# EAGLE library part PIC32MK0512GPE064-I/PT (library GreenFuel)
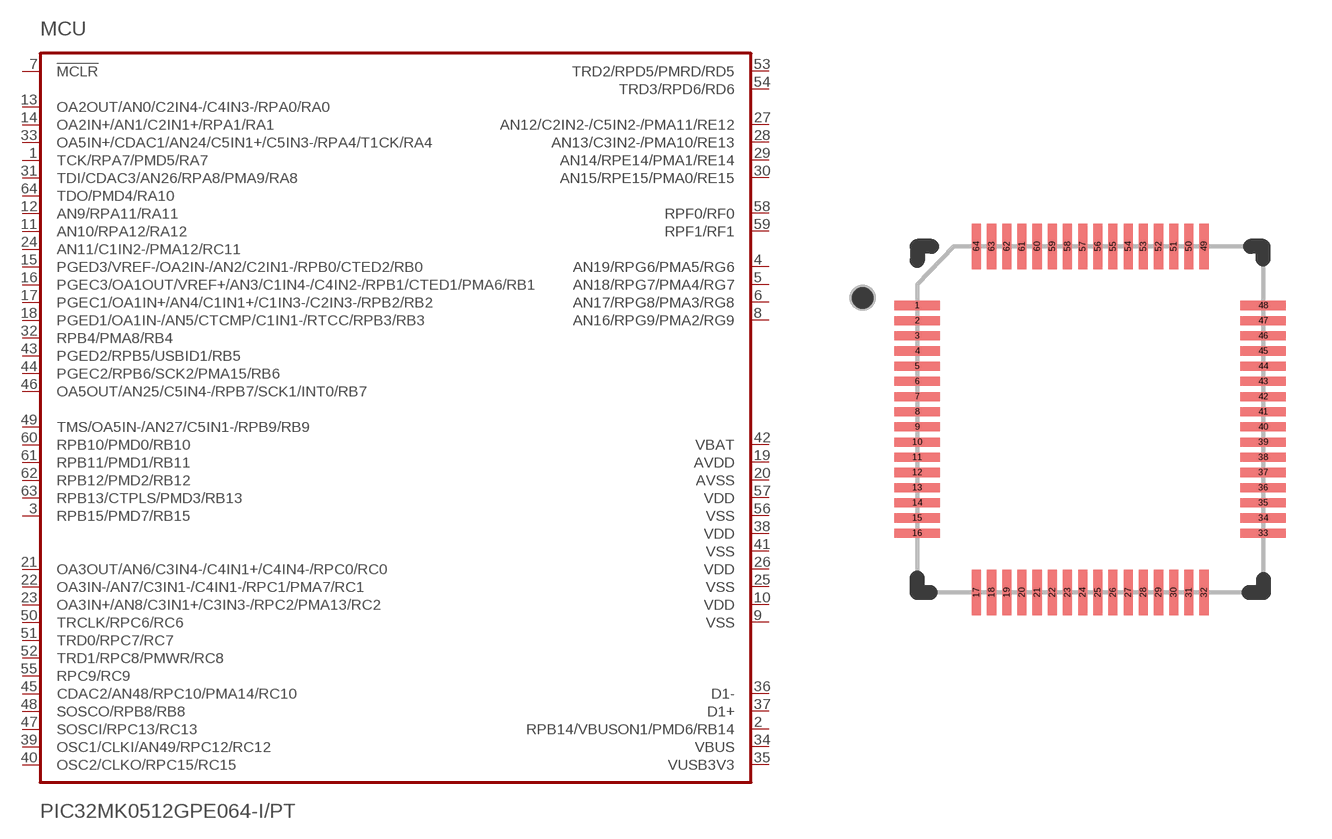
[diagram p4: symbol with the pads of TQFP-64-I/PT; footprint TQFP-64-I/PT]

Designator prefix MCU

## PIC32MK0512GPE064-I/PT  [TQFP-64-I/PT]
1  TCK/RPA7/PMD5/RA7
2  RPB14/VBUSON1/PMD6/RB14
3  RPB15/PMD7/RB15
4  AN19/RPG6/PMA5/RG6
5  AN18/RPG7/PMA4/RG7
6  AN17/RPG8/PMA3/RG8
7  !MCLR  in
8  AN16/RPG9/PMA2/RG9
9  VSS  pwr
10  VDD  pwr
11  AN10/RPA12/RA12
12  AN9/RPA11/RA11
13  OA2OUT/AN0/C2IN4-/C4IN3-/RPA0/RA0
14  OA2IN+/AN1/C2IN1+/RPA1/RA1
15  PGED3/VREF-/OA2IN-/AN2/C2IN1-/RPB0/CTED2/RB0  in
16  PGEC3/OA1OUT/VREF+/AN3/C1IN4-/C4IN2-/RPB1/CTED1/PMA6/RB1  in
17  PGEC1/OA1IN+/AN4/C1IN1+/C1IN3-/C2IN3-/RPB2/RB2
18  PGED1/OA1IN-/AN5/CTCMP/C1IN1-/RTCC/RPB3/RB3
19  AVDD  pwr
20  AVSS  pwr
21  OA3OUT/AN6/C3IN4-/C4IN1+/C4IN4-/RPC0/RC0
22  OA3IN-/AN7/C3IN1-/C4IN1-/RPC1/PMA7/RC1
23  OA3IN+/AN8/C3IN1+/C3IN3-/RPC2/PMA13/RC2
24  AN11/C1IN2-/PMA12/RC11
25  VSS  pwr
26  VDD  pwr
27  AN12/C2IN2-/C5IN2-/PMA11/RE12
28  AN13/C3IN2-/PMA10/RE13
29  AN14/RPE14/PMA1/RE14
30  AN15/RPE15/PMA0/RE15
31  TDI/CDAC3/AN26/RPA8/PMA9/RA8
32  RPB4/PMA8/RB4
33  OA5IN+/CDAC1/AN24/C5IN1+/C5IN3-/RPA4/T1CK/RA4
34  VBUS  in
35  VUSB3V3  pwr
36  D1-
37  D1+
38  VDD  pwr
39  OSC1/CLKI/AN49/RPC12/RC12
40  OSC2/CLKO/RPC15/RC15
41  VSS  pwr
42  VBAT  pwr
43  PGED2/RPB5/USBID1/RB5
44  PGEC2/RPB6/SCK2/PMA15/RB6
45  CDAC2/AN48/RPC10/PMA14/RC10
46  OA5OUT/AN25/C5IN4-/RPB7/SCK1/INT0/RB7
47  SOSCI/RPC13/RC13
48  SOSCO/RPB8/RB8
49  TMS/OA5IN-/AN27/C5IN1-/RPB9/RB9
50  TRCLK/RPC6/RC6
51  TRD0/RPC7/RC7
52  TRD1/RPC8/PMWR/RC8
53  TRD2/RPD5/PMRD/RD5
54  TRD3/RPD6/RD6
55  RPC9/RC9
56  VSS  pwr
57  VDD  pwr
58  RPF0/RF0
59  RPF1/RF1
60  RPB10/PMD0/RB10
61  RPB11/PMD1/RB11
62  RPB12/PMD2/RB12
63  RPB13/CTPLS/PMD3/RB13
64  TDO/PMD4/RA10

## Footprint TQFP-64-I/PT (pad centres in mm)
smd 1.5 x 0.3: 1 -5.7,3.75; 2 -5.7,3.25; 3 -5.7,2.75; 4 -5.7,2.25; 5 -5.7,1.75; 6 -5.7,1.25; 7 -5.7,0.75; 8 -5.7,0.25; 9 -5.7,-0.25; 10 -5.7,-0.75; 11 -5.7,-1.25; 12 -5.7,-1.75; 13 -5.7,-2.25; 14 -5.7,-2.75; 15 -5.7,-3.25; 16 -5.7,-3.75; 33 5.7,-3.75; 34 5.7,-3.25; 35 5.7,-2.75; 36 5.7,-2.25; 37 5.7,-1.75; 38 5.7,-1.25; 39 5.7,-0.75; 40 5.7,-0.25; 41 5.7,0.25; 42 5.7,0.75; 43 5.7,1.25; 44 5.7,1.75; 45 5.7,2.25; 46 5.7,2.75; 47 5.7,3.25; 48 5.7,3.75
smd 0.3 x 1.5: 17 -3.75,-5.7; 18 -3.25,-5.7; 19 -2.75,-5.7; 20 -2.25,-5.7; 21 -1.75,-5.7; 22 -1.25,-5.7; 23 -0.75,-5.7; 24 -0.25,-5.7; 25 0.25,-5.7; 26 0.75,-5.7; 27 1.25,-5.7; 28 1.75,-5.7; 29 2.25,-5.7; 30 2.75,-5.7; 31 3.25,-5.7; 32 3.75,-5.7; 49 3.75,5.7; 50 3.25,5.7; 51 2.75,5.7; 52 2.25,5.7; 53 1.75,5.7; 54 1.25,5.7; 55 0.75,5.7; 56 0.25,5.7; 57 -0.25,5.7; 58 -0.75,5.7; 59 -1.25,5.7; 60 -1.75,5.7; 61 -2.25,5.7; 62 -2.75,5.7; 63 -3.25,5.7; 64 -3.75,5.7